# Altium footprint library schottlky diode 5A.PcbLib: 3 footprints
Each footprint in its own frame and in the unit in brackets; x right, y up, seen from the top. Pads: shape width x height; smd on the part's side, far side on the other; paste and mask are expansions set on the pad; w line width, h text height; cw(c..) or ccw(c..) is an arc to the next point about the centre after c.
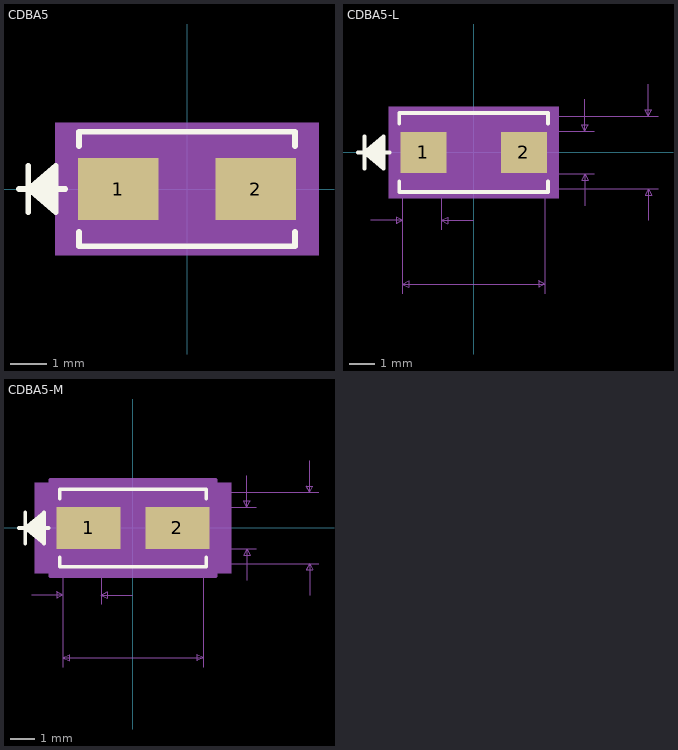
[diagram p0: the footprints below, top view; thin cyan lines are the x and y axes]

## CDBA5 [mil]
pads (2):
  rect 87x67 smd paste+0 mask+0: 1(-74.5,0) 2(74.5,0)
Top Overlay:
  lines w6: -182,0 -132,0 ; -172,-25 -172,25 ; -142,-20 -172,0 ; -142,-15 -172,0 ; -142,-10 -172,0 ; -142,-5 -172,0 ; -142,5 -172,0 ; -142,10 -172,0 ; -142,15 -172,0 ; -142,20 -172,0 ; -117,-46.6 -117,-62 117,-62 117,-46.6 ; -117,46.6 -117,62 117,62 117,46.6 ; -172,0 -142,25 -142,-25 -172,0
Mechanical 5:
  region: 143,-72 -143,-72 -143,72 143,72
Mechanical 13:
  lines w1: -182,0 -132,0 ; -172,-25 -172,25 ; -142,-20 -172,0 ; -142,-15 -172,0 ; -142,-10 -172,0 ; -142,-5 -172,0 ; -142,5 -172,0 ; -142,10 -172,0 ; -142,15 -172,0 ; -142,20 -172,0 ; -172,0 -142,25 -142,-25 -172,0 ; -112,-57 112,-57 112,57 -112,57 -112,-57
Mechanical 15:
  region: -122,-43.5 -128,-43.5 -128,43.5 -122,43.5 -122,67 122,67 122,43.5 128,43.5 128,-43.5 122,-43.5 122,-67 -122,-67
  lines w6: -128,-43.5 -128,43.5 -122,43.5 -122,67 122,67 122,43.5 128,43.5 128,-43.5 122,-43.5 122,-67 -122,-67 -122,-43.5 -128,-43.5
3D body: height 10, standoff 0, extent 0,0 10,10

## CDBA5-L [mil]
pads (2):
  rect 72x65 smd paste+0 mask+0: 1(-79,0) 2(79,0)
Top Overlay:
  lines w6: -182,0 -132,0 ; -172,-25 -172,25 ; -142,-20 -172,0 ; -142,-15 -172,0 ; -142,-10 -172,0 ; -142,-5 -172,0 ; -142,5 -172,0 ; -142,10 -172,0 ; -142,15 -172,0 ; -142,20 -172,0 ; -117,-45.45 -117,-62 117,-62 117,-45.45 ; -117,45.45 -117,62 117,62 117,45.45 ; -172,0 -142,25 -142,-25 -172,0
Mechanical 5:
  region: 134,-72 -134,-72 -134,72 134,72
Mechanical 7:
  lines w1: -162,-107 -112,-107 ; -112,-222 -112,0 -112,-122 ; -51,-122 -51,0 ; -1,-107 -51,-107 ; 112,-222 112,0 ; 125,-57 290,-57 ; 125,-33.5 190,-33.5 ; 125,33.5 190,33.5 ; 125,57 290,57 ; 175,-83.5 175,-33.5 ; 175,83.5 175,33.5 ; 275,-107 275,-57 ; 275,107 275,57 ; -112,-207 112,-207 ; -112,-207 -102,-202 -102,-212 -112,-207 ; -112,-107 -122,-102 -122,-112 -112,-107 ; -51,-107 -41,-102 -41,-112 -51,-107 ; 112,-207 102,-202 102,-212 112,-207 ; 175,-33.5 170,-43.5 180,-43.5 175,-33.5 ; 175,33.5 170,43.5 180,43.5 175,33.5 ; 275,-57 270,-67 280,-67 275,-57 ; 275,57 270,67 280,67 275,57
  text "Default Padstyle: RX72Y65D0T" at -350,-332 h50
  text "Alt 1 Padstyle: OX60Y90D30P" at -337.5,-407 h50
  text "Alt 2 Padstyle: OX90Y60D30P" at -337.5,-482 h50
  text "0.067in/1.702mm" at 195,-12.5 h25
  text "0.114in/2.896mm" at 295,-12.5 h25
  text "0.224in/5.69mm" at -87.5,-252 h25
  text "0.061in/1.549mm" at -175.25,-152 h25
Mechanical 13:
  lines w1: -182,0 -132,0 ; -172,-25 -172,25 ; -142,-20 -172,0 ; -142,-15 -172,0 ; -142,-10 -172,0 ; -142,-5 -172,0 ; -142,5 -172,0 ; -142,10 -172,0 ; -142,15 -172,0 ; -142,20 -172,0 ; -172,0 -142,25 -142,-25 -172,0 ; -112,-57 112,-57 112,57 -112,57 -112,-57
Mechanical 15:
  region: -116,-37.5 -119,-37.5 -119,37.5 -116,37.5 -116,61 116,61 116,37.5 119,37.5 119,-37.5 116,-37.5 116,-61 -116,-61
  lines w6: -119,-37.5 -119,37.5 -116,37.5 -116,61 116,61 116,37.5 119,37.5 119,-37.5 116,-37.5 116,-61 -116,-61 -116,-37.5 -119,-37.5
3D body: height 10, standoff 0, extent 0,0 10,10

## CDBA5-M [mil]
pads (2):
  rect 102x67 smd paste+0 mask+0: 1(-71,0) 2(71,0)
Top Overlay:
  lines w6: -182,0 -135.1,0 ; -172,-25 -172,25 ; -142,-20 -172,0 ; -142,-15 -172,0 ; -142,-10 -172,0 ; -142,-5 -172,0 ; -142,5 -172,0 ; -142,10 -172,0 ; -142,15 -172,0 ; -142,20 -172,0 ; -117,-46.6 -117,-62 117,-62 117,-46.6 ; -117,46.6 -117,62 117,62 117,46.6 ; -172,0 -142,25 -142,-25 -172,0
Mechanical 5:
  region: 157,-72 -157,-72 -157,72 157,72
Mechanical 7:
  lines w1: -162,-107 -112,-107 ; -112,-222 -112,0 -112,-122 ; -51,-122 -51,0 ; -1,-107 -51,-107 ; 112,-222 112,0 ; 132,-57 297,-57 ; 132,-33.5 197,-33.5 ; 132,33.5 197,33.5 ; 132,57 297,57 ; 182,-83.5 182,-33.5 ; 182,83.5 182,33.5 ; 282,-107 282,-57 ; 282,107 282,57 ; -112,-207 112,-207 ; -112,-207 -102,-202 -102,-212 -112,-207 ; -112,-107 -122,-102 -122,-112 -112,-107 ; -51,-107 -41,-102 -41,-112 -51,-107 ; 112,-207 102,-202 102,-212 112,-207 ; 182,-33.5 177,-43.5 187,-43.5 182,-33.5 ; 182,33.5 177,43.5 187,43.5 182,33.5 ; 282,-57 277,-67 287,-67 282,-57 ; 282,57 277,67 287,67 282,57
  text "Default Padstyle: RX102Y67D0T" at -362.5,-332 h50
  text "Alt 1 Padstyle: OX60Y90D30P" at -337.5,-407 h50
  text "Alt 2 Padstyle: OX90Y60D30P" at -337.5,-482 h50
  text "0.067in/1.702mm" at 202,-12.5 h25
  text "0.114in/2.896mm" at 302,-12.5 h25
  text "0.224in/5.69mm" at -87.5,-252 h25
  text "0.061in/1.549mm" at -175.25,-152 h25
Mechanical 13:
  lines w1: -182,0 -132,0 ; -172,-25 -172,25 ; -142,-20 -172,0 ; -142,-15 -172,0 ; -142,-10 -172,0 ; -142,-5 -172,0 ; -142,5 -172,0 ; -142,10 -172,0 ; -142,15 -172,0 ; -142,20 -172,0 ; -172,0 -142,25 -142,-25 -172,0 ; -112,-57 112,-57 112,57 -112,57 -112,-57
Mechanical 15:
  region: -132,-53.5 -142,-53.5 -142,53.5 -132,53.5 -132,77 132,77 132,53.5 142,53.5 142,-53.5 132,-53.5 132,-77 -132,-77
  lines w6: -142,-53.5 -142,53.5 -132,53.5 -132,77 132,77 132,53.5 142,53.5 142,-53.5 132,-53.5 132,-77 -132,-77 -132,-53.5 -142,-53.5
3D body: height 10, standoff 0, extent 0,0 10,10